# Altium footprint library PcbLib1.PcbLib: 218 footprints (part 9 of 14)
Each footprint in its own frame and in the unit in brackets; x right, y up, seen from the top. Pads: shape width x height; smd on the part's side, far side on the other; paste and mask are expansions set on the pad; w line width, h text height; cw(c..) or ccw(c..) is an arc to the next point about the centre after c.
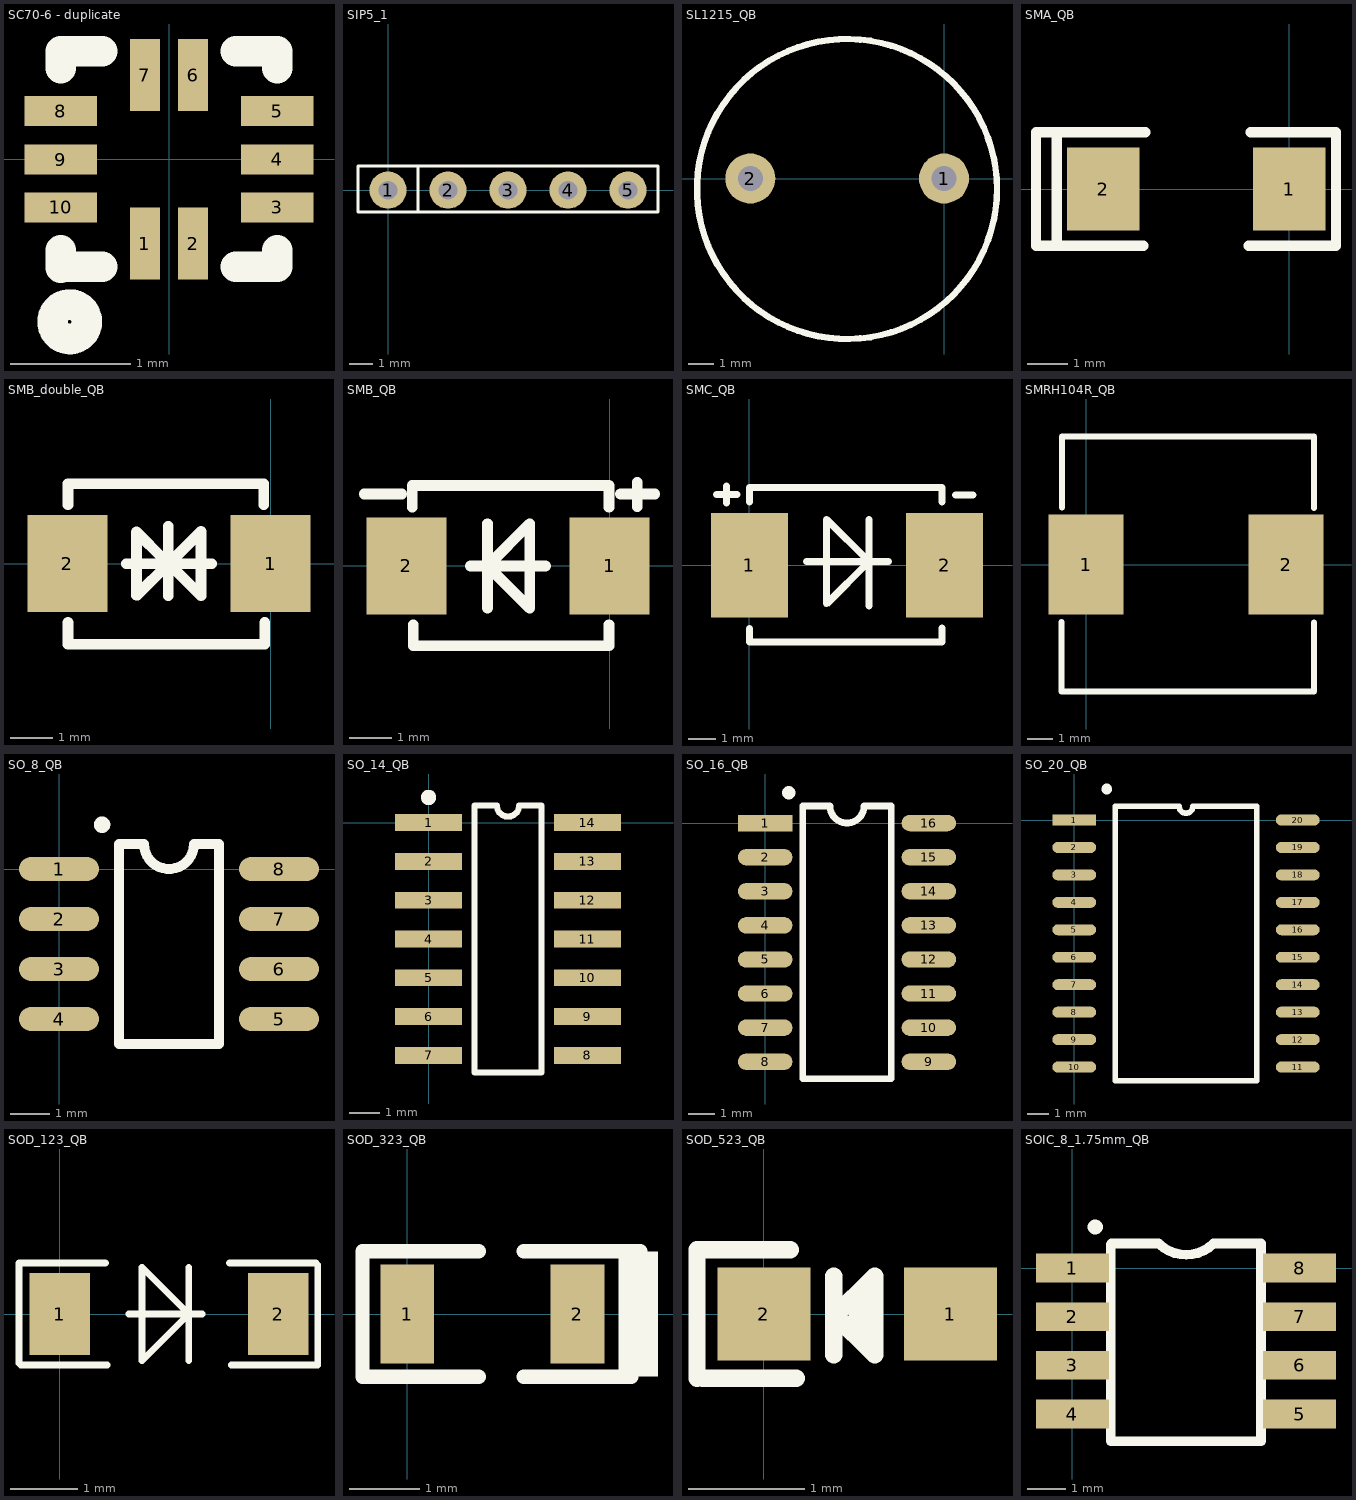
[diagram p8: the footprints below, top view; thin cyan lines are the x and y axes]

## SC70-6 - duplicate [mm]
pads (10):
  rect 0.25x0.6 smd: 1(-0.2,-0.7) 2(0.2,-0.7) 6(0.2,0.7) 7(-0.2,0.7)
  rect 0.6x0.25 smd: 3(0.9,-0.4) 4(0.9,0) 5(0.9,0.4) 8(-0.9,0.4) 9(-0.9,-0.002) 10(-0.9,-0.4)
Top Overlay:
  circle w0.254: c-0.825,-1.35 r0.143
  lines w0.254: -0.901,-0.902 -0.901,-0.756 ; -0.901,0.756 -0.901,0.9 ; -0.9,0.9 -0.556,0.9 ; -0.889,-0.891 -0.556,-0.891 ; 0.556,-0.891 0.9,-0.891 0.9,-0.756 ; 0.556,0.9 0.9,0.9 0.9,0.756

## SIP5_1 [mil]
height 230
pads (5):
  round 62 hole 31: 1(0,0) 2(100,0) 3(200,0) 4(300,0) 5(400,0)
Top Overlay:
  lines w5: 50,-36.42 50,40 ; -50,-36.42 450,-36.42 450,40 -50,40 -50,-36.42

## SL1215_QB [mm]
pads (2):
  round 2 hole 1: 1(0,0) 2(-7.75,0)
Top Overlay:
  circle w0.254: c-3.881,-0.419 r6
3D body: height 14.5, standoff 0, extent -9.931,-6.419 2.022,5.558
3D body: height 5.5, standoff 0, extent -8.197,-0.394 -7.351,0.455
3D body: height 5.5, standoff 0, extent -0.421,-0.406 0.426,0.442

## SMA_QB [mil]
pads (2):
  rect 70x80 smd: 1(0,0) 2(-180,0)
Top Overlay:
  lines w10: -225,-55 -225,55 ; -141.46,-55 -245,-55 -245,55 -139.49,55 ; -39.25,-55 45,-55 45,55 -37.52,55
3D body: height 78.74, standoff 3.94, extent -167.75,-37 -12.24,37
3D body: height 59.06, standoff 0, extent -192,-27 -168,27
3D body: height 59.06, standoff 0, extent -11.75,-27 11.75,27

## SMB_double_QB [mm]
pads (2):
  rect 1.905x2.3 smd: 1(0,0) 2(-4.826,0)
Top Overlay:
  lines w0.254: -4.814,-1.397 -4.814,-1.913 -0.141,-1.913 -0.141,-1.397 ; -4.814,1.397 -4.814,1.897 -0.166,1.897 -0.166,1.397 ; -3.429,0 -2.434,0 ; -2.434,-0.762 -2.434,0.889 ; -2.434,0.106 -2.54,0.106 -3.186,0.751 -3.186,-0.751 ; -1.397,0 -2.434,0 ; -3.186,-0.751 -3.164,-0.751 -1.651,0.762 -1.651,-0.762 -2.413,0 -2.434,0 ; -3.186,-0.751 -2.434,0
3D body: height 2, standoff 0, extent -4.814,-1.913 -0.141,1.897

## SMB_QB [mm]
pads (2):
  rect 1.905x2.3 smd: 1(0,0) 2(-4.826,0)
Top Overlay:
  lines w0.254: -5.829,1.71 -4.94,1.71 ; -4.685,1.397 -4.685,1.913 -0.012,1.913 -0.012,1.397 ; -4.66,-1.397 -4.66,-1.897 -0.012,-1.897 -0.012,-1.397 ; -3.302,0 -2.9,0 ; -2.9,-1 -2.9,1 ; -1.524,0 -2.9,0 ; 0.26,1.71 1.07,1.71 ; 0.66,1.41 0.66,1.99 0.66,1.67 ; -2.9,0 -1.9,-1 -1.9,1 -2.9,0
3D body: height 2, standoff 0, extent -4.685,-1.897 -0.012,1.913

## SMC_QB [mm]
pads (2):
  rect 2.8x3.8 smd: 1(0,0) 2(7.1,0)
Top Overlay:
  lines w0.254: -1.19,2.57 -0.82,2.57 -0.44,2.57 ; -0.82,2.26 -0.82,2.88 ; 0,-2.3 0,-2.8 7,-2.8 7,-2.284 ; 0,2.3 0,2.816 7,2.816 7,2.3 ; 2.07,0.13 5.06,0.13 ; 4.346,-1.49 4.346,1.65 ; 7.5,2.55 8.12,2.55 ; 2.813,-1.403 4.346,0.13 2.813,1.663 2.813,-1.403 ; 2.813,-1.403 2.813,-1.403
3D body: height 3, standoff 0, extent 0,-2.8 7,2.816

## SMRH104R_QB [mm]
pads (2):
  rect 3x4 smd: 1(0,0) 2(8,0)
Top Overlay:
  lines w0.254: -0.983,-2.304 -0.983,-5.077 9.121,-5.077 9.121,-2.327 ; -0.963,2.286 -0.963,5.123 9.121,5.123 9.121,2.266
3D body: height 4.2, standoff 0, extent -0.879,-5.07 9.119,5.133

## SO_8_QB [mil]
pads (8):
  oval 80x24 smd: 1(0,0) 2(0,-50) 3(0,-100) 4(0,-150) 5(220,-150) 6(220,-100) 7(220,-50) 8(220,0)
Top Overlay:
  circle w10: c43.1,44.29 r3.16
  lines w10: 60,-175 160,-175 160,25 135,25 cw(c110,25) 85,25 60,25 60,-175
3D body: height 70.87, standoff 0, extent 40,-175 180,25

## SO_14_QB [mm]
height 1.753
pads (14):
  rect 2.2x0.55 smd: 1(0,0) 2(0,-1.27) 3(0,-2.54) 4(0,-3.81) 5(0,-5.08) 6(0,-6.35) 7(0,-7.62) 8(5.2,-7.62) 9(5.2,-6.35) 10(5.2,-5.08) 11(5.2,-3.81) 12(5.2,-2.54) 13(5.2,-1.27) 14(5.2,0)
Top Overlay:
  circle w0.25: c0,0.825 r0.125
  lines w0.2: 1.5,-8.185 1.5,0.565 2.233,0.565 ccw(c2.6,0.565) 2.967,0.565 3.7,0.565 3.7,-8.185 1.5,-8.185
3D body: height 1.75, standoff 0, extent 1.499,-8.186 3.701,0.566
3D body: height 0.4, standoff 0, extent 0,-7.82 1.9,-7.42
3D body: height 0.4, standoff 0, extent 0,-6.55 1.9,-6.15
3D body: height 0.4, standoff 0, extent 0,-5.28 1.9,-4.88
3D body: height 0.4, standoff 0, extent 0,-4.01 1.9,-3.61
3D body: height 0.4, standoff 0, extent 0,-2.74 1.9,-2.34
3D body: height 0.4, standoff 0, extent 0,-1.47 1.9,-1.07
3D body: height 0.4, standoff 0, extent 0,-0.2 1.9,0.2
3D body: height 0.4, standoff 0, extent 3.3,-7.82 5.2,-7.42
3D body: height 0.4, standoff 0, extent 3.3,-6.55 5.2,-6.15
3D body: height 0.4, standoff 0, extent 3.3,-5.28 5.2,-4.88
3D body: height 0.4, standoff 0, extent 3.3,-4.01 5.2,-3.61
3D body: height 0.4, standoff 0, extent 3.3,-2.74 5.2,-2.34
3D body: height 0.4, standoff 0, extent 3.3,-1.47 5.2,-1.07
3D body: height 0.4, standoff 0, extent 3.4,-0.2 5.3,0.2

## SO_16_QB [mil]
pads (16):
  rect 80x24 smd: 1(0,0)
  oval 80x24 smd: 2(0,-50) 3(0,-100) 4(0,-150) 5(0,-200) 6(0,-250) 7(0,-300) 8(0,-350) 9(240,-350) 10(240,-300) 11(240,-250) 12(240,-200) 13(240,-150) 14(240,-100) 15(240,-50) 16(240,0)
Top Overlay:
  lines w10: 55,-375 55,25 95,25 ccw(c120,25) 145,25 185,25 185,-375 55,-375
  lines w19.68: 34.45,44.29 34.45,44.69
3D body: height 118.11, standoff 0, extent 32.48,-372.64 202.48,22.36
3D body: height 59.06, standoff 0, extent -7.52,-7.64 32.48,12.36
3D body: height 59.06, standoff 0, extent -7.52,-57.64 32.48,-37.64
3D body: height 59.06, standoff 0, extent -7.52,-107.64 32.48,-87.64
3D body: height 59.06, standoff 0, extent -7.52,-157.64 32.48,-137.64
3D body: height 59.06, standoff 0, extent -7.52,-207.64 32.48,-187.64
3D body: height 59.06, standoff 0, extent -7.52,-257.64 32.48,-237.64
3D body: height 59.06, standoff 0, extent -7.52,-307.64 32.48,-287.64
3D body: height 59.06, standoff 0, extent -7.52,-357.64 32.48,-337.64
3D body: height 59.06, standoff 0, extent 202.48,-357.64 242.48,-337.64
3D body: height 59.06, standoff 0, extent 202.48,-307.64 242.48,-287.64
3D body: height 59.06, standoff 0, extent 202.48,-257.64 242.48,-237.64
3D body: height 59.06, standoff 0, extent 202.48,-207.64 242.48,-187.64
3D body: height 59.06, standoff 0, extent 202.48,-157.64 242.48,-137.64
3D body: height 59.06, standoff 0, extent 202.48,-107.64 242.48,-87.64
3D body: height 59.06, standoff 0, extent 202.48,-57.64 242.48,-37.64
3D body: height 59.06, standoff 0, extent 202.48,-7.64 242.48,12.36

## SO_20_QB [mil]
pads (20):
  rect 80x20 smd: 1(0,0)
  oval 80x20 smd: 2(0,-50) 3(0,-100) 4(0,-150) 5(0,-200) 6(0,-250) 7(0,-300) 8(0,-350) 9(0,-400) 10(0,-450) 11(407,-450) 12(407,-400) 13(407,-350) 14(407,-300) 15(407,-250) 16(407,-200) 17(407,-150) 18(407,-100) 19(407,-50) 20(407,0)
Top Overlay:
  lines w10: 75,-475 332,-475 332,25 216,25 cw(c203.5,25) 191,25 75,25 75,-475
  lines w19.68: 59.06,56.1 59.06,56.5
3D body: height 100, standoff 8, extent 55,-485 355,25
3D body: height 55.12, standoff 0, extent 25,-110 35,-90
3D body: height 9.84, standoff 0, extent -10,-110 35,-90
3D body: height 64.96, standoff 55.12, extent 25,-110 55,-90
3D body: height 55.12, standoff 0, extent 25,-160 35,-140
3D body: height 9.84, standoff 0, extent -10,-160 35,-140
3D body: height 64.96, standoff 55.12, extent 25,-160 55,-140
3D body: height 55.12, standoff 0, extent 25,-210 35,-190
3D body: height 9.84, standoff 0, extent -10,-210 35,-190
3D body: height 64.96, standoff 55.12, extent 25,-210 55,-190
3D body: height 55.12, standoff 0, extent 25,-260 35,-240
3D body: height 9.84, standoff 0, extent -10,-260 35,-240
3D body: height 64.96, standoff 55.12, extent 25,-260 55,-240
3D body: height 55.12, standoff 0, extent 25,-310 35,-290
3D body: height 9.84, standoff 0, extent -10,-310 35,-290
3D body: height 64.96, standoff 55.12, extent 25,-310 55,-290
3D body: height 55.12, standoff 0, extent 25,-360 35,-340
3D body: height 9.84, standoff 0, extent -10,-360 35,-340
3D body: height 64.96, standoff 55.12, extent 25,-360 55,-340
3D body: height 55.12, standoff 0, extent 25,-410 35,-390
3D body: height 9.84, standoff 0, extent -10,-410 35,-390
3D body: height 64.96, standoff 55.12, extent 25,-410 55,-390
3D body: height 55.12, standoff 0, extent 25,-460 35,-440
3D body: height 9.84, standoff 0, extent -10,-460 35,-440
3D body: height 64.96, standoff 55.12, extent 25,-460 55,-440
3D body: height 55.12, standoff 0, extent 375,-460 385,-440
3D body: height 9.84, standoff 0, extent 375,-460 420,-440
3D body: height 64.96, standoff 55.12, extent 355,-460 385,-440
3D body: height 55.12, standoff 0, extent 375,-410 385,-390
3D body: height 9.84, standoff 0, extent 375,-410 420,-390
3D body: height 64.96, standoff 55.12, extent 355,-410 385,-390
3D body: height 55.12, standoff 0, extent 375,-360 385,-340
3D body: height 9.84, standoff 0, extent 375,-360 420,-340
3D body: height 64.96, standoff 55.12, extent 355,-360 385,-340
3D body: height 55.12, standoff 0, extent 375,-310 385,-290
3D body: height 9.84, standoff 0, extent 375,-310 420,-290
3D body: height 64.96, standoff 55.12, extent 355,-310 385,-290
3D body: height 55.12, standoff 0, extent 375,-260 385,-240
3D body: height 9.84, standoff 0, extent 375,-260 420,-240
3D body: height 64.96, standoff 55.12, extent 355,-260 385,-240
3D body: height 55.12, standoff 0, extent 375,-210 385,-190
3D body: height 9.84, standoff 0, extent 375,-210 420,-190
3D body: height 64.96, standoff 55.12, extent 355,-210 385,-190
3D body: height 55.12, standoff 0, extent 375,-160 385,-140
3D body: height 9.84, standoff 0, extent 375,-160 420,-140
3D body: height 64.96, standoff 55.12, extent 355,-160 385,-140
3D body: height 55.12, standoff 0, extent 375,-110 385,-90
3D body: height 9.84, standoff 0, extent 375,-110 420,-90
3D body: height 64.96, standoff 55.12, extent 355,-110 385,-90
3D body: height 55.12, standoff 0, extent 375,-60 385,-40
3D body: height 9.84, standoff 0, extent 375,-60 420,-40
3D body: height 64.96, standoff 55.12, extent 355,-60 385,-40
3D body: height 55.12, standoff 0, extent 375,-10 385,10
3D body: height 9.84, standoff 0, extent 375,-10 420,10
3D body: height 64.96, standoff 55.12, extent 355,-10 385,10
3D body: height 64.96, standoff 55.12, extent 25,-60 55,-40
3D body: height 9.84, standoff 0, extent -10,-60 35,-40
3D body: height 55.12, standoff 0, extent 25,-60 35,-40
3D body: height 64.96, standoff 55.12, extent 25,-10 55,10
3D body: height 9.84, standoff 0, extent -10,-10 35,10
3D body: height 55.12, standoff 0, extent 25,-10 35,10

## SOD_123_QB [mm]
pads (2):
  rect 0.91x1.22 smd: 1(0,0) 2(3.27,0)
Top Overlay:
  lines w0.1: 0.686,0.762 -0.61,0.762 -0.61,-0.737 -0.584,-0.762 0.711,-0.762 ; 1.03,0 2.13,0 ; 1.93,-0.7 1.93,0.7 ; 2.54,0.762 3.835,0.762 ; 2.565,-0.762 3.861,-0.762 3.861,0.737 ; 1.23,0.7 1.23,0.7 ; 1.23,0.7 1.93,0 ; 1.23,0.7 1.23,-0.7 1.93,0 ; 1.93,0 1.93,0
3D body: height 0.15, standoff 0, extent 2.87,-0.406 3.302,0.381
3D body: height 0.15, standoff 0, extent -0.025,-0.406 0.406,0.381
3D body: height 1.35, standoff 0, extent 0.406,-0.584 2.87,0.584

## SOD_323_QB [mil]
pads (2):
  rect 30x55 smd: 1(0,0) 2(95,0)
Top Overlay:
  rectangle: 118.04,-35 140,35
  lines w8: 40,-35 -25,-35 -25,35 40,35 ; 65,-35 125,-35 ; 65,35 130,35
3D body: height 7.87, standoff 0, extent 83.66,-14.76 95.47,13.78
3D body: height 7.87, standoff 0, extent -0.98,-14.76 10.83,13.78
3D body: height 27.56, standoff 0, extent 10.83,-21.65 83.66,21.65

## SOD_523_QB [mm]
pads (2):
  rect 0.8x0.8 smd: 1(1.6,0) 2(0,0)
Top Overlay:
  lines w0.15: -0.575,-0.55 -0.575,0.55 0.225,0.55 ; -0.525,-0.55 0.275,-0.55 ; 0.6,-0.35 0.6,0.325 ; 0.6,-0.025 0.95,0.325 0.95,-0.35 ; 0.6,0 0.95,-0.35 ; 0.8,0.15 0.8,-0.2 0.95,-0.35
3D body: height 0.65, standoff 0, extent 0.102,-0.432 1.398,0.432
3D body: height 0.2, standoff 0, extent -0.126,-0.229 0.102,0.229
3D body: height 0.2, standoff 0, extent 1.398,-0.229 1.626,0.229

## SOIC_8_1.75mm_QB [mm]
height 1.75
pads (8):
  rect 1.9x0.75 smd: 1(0,0) 2(0,-1.27) 3(0,-2.54) 4(0,-3.81) 5(5.93,-3.81) 6(5.93,-2.54) 7(5.93,-1.27) 8(5.93,0)
Top Overlay:
  lines w0.254: 1,0.62 1,-4.52 4.92,-4.52 4.92,0.64 3.683,0.64 cw(c2.97,1.353) 2.257,0.64 1.02,0.64
  lines w0.4: 0.59,1.07 0.6,1.07
3D body: height 0.95, standoff 0.74, extent 4.92,-4.15 5.42,-3.55
3D body: height 0.74, standoff 0, extent 5.17,-4.15 5.42,-3.55
3D body: height 0.25, standoff 0, extent 5.17,-4.15 5.82,-3.55
3D body: height 0.95, standoff 0.74, extent 4.92,-2.83 5.42,-2.23
3D body: height 0.74, standoff 0, extent 5.17,-2.83 5.42,-2.23
3D body: height 0.25, standoff 0, extent 5.17,-2.83 5.82,-2.23
3D body: height 0.95, standoff 0.74, extent 4.92,-1.59 5.42,-0.99
3D body: height 0.74, standoff 0, extent 5.17,-1.59 5.42,-0.99
3D body: height 0.25, standoff 0, extent 5.17,-1.59 5.82,-0.99
3D body: height 0.95, standoff 0.74, extent 4.92,-0.29 5.42,0.31
3D body: height 0.74, standoff 0, extent 5.17,-0.29 5.42,0.31
3D body: height 0.25, standoff 0, extent 5.17,-0.29 5.82,0.31
3D body: height 0.95, standoff 0.74, extent 0.49,-4.12 0.99,-3.52
3D body: height 0.75, standoff 0, extent 0.49,-4.12 0.74,-3.52
3D body: height 0.25, standoff 0, extent 0.09,-4.12 0.74,-3.52
3D body: height 0.95, standoff 0.74, extent 0.49,-2.82 0.99,-2.22
3D body: height 0.75, standoff 0, extent 0.49,-2.82 0.74,-2.22
3D body: height 0.25, standoff 0, extent 0.09,-2.82 0.74,-2.22
3D body: height 0.95, standoff 0.74, extent 0.49,-1.56 0.99,-0.96
3D body: height 0.75, standoff 0, extent 0.49,-1.56 0.74,-0.96
3D body: height 0.25, standoff 0, extent 0.09,-1.56 0.74,-0.96
3D body: height 0.95, standoff 0.74, extent 0.49,-0.29 0.99,0.31
3D body: height 0.75, standoff 0, extent 0.49,-0.29 0.74,0.31
3D body: height 0.25, standoff 0, extent 0.09,-0.29 0.74,0.31
3D body: height 1.75, standoff 0.1, extent 1,-4.52 4.92,0.64